# Altium footprint library Capacitor_THT.PcbLib: 378 footprints (part 11 of 24)
Each footprint in its own frame and in the unit in brackets; x right, y up, seen from the top. Pads: shape width x height; smd on the part's side, far side on the other; paste and mask are expansions set on the pad; w line width, h text height; cw(c..) or ccw(c..) is an arc to the next point about the centre after c.
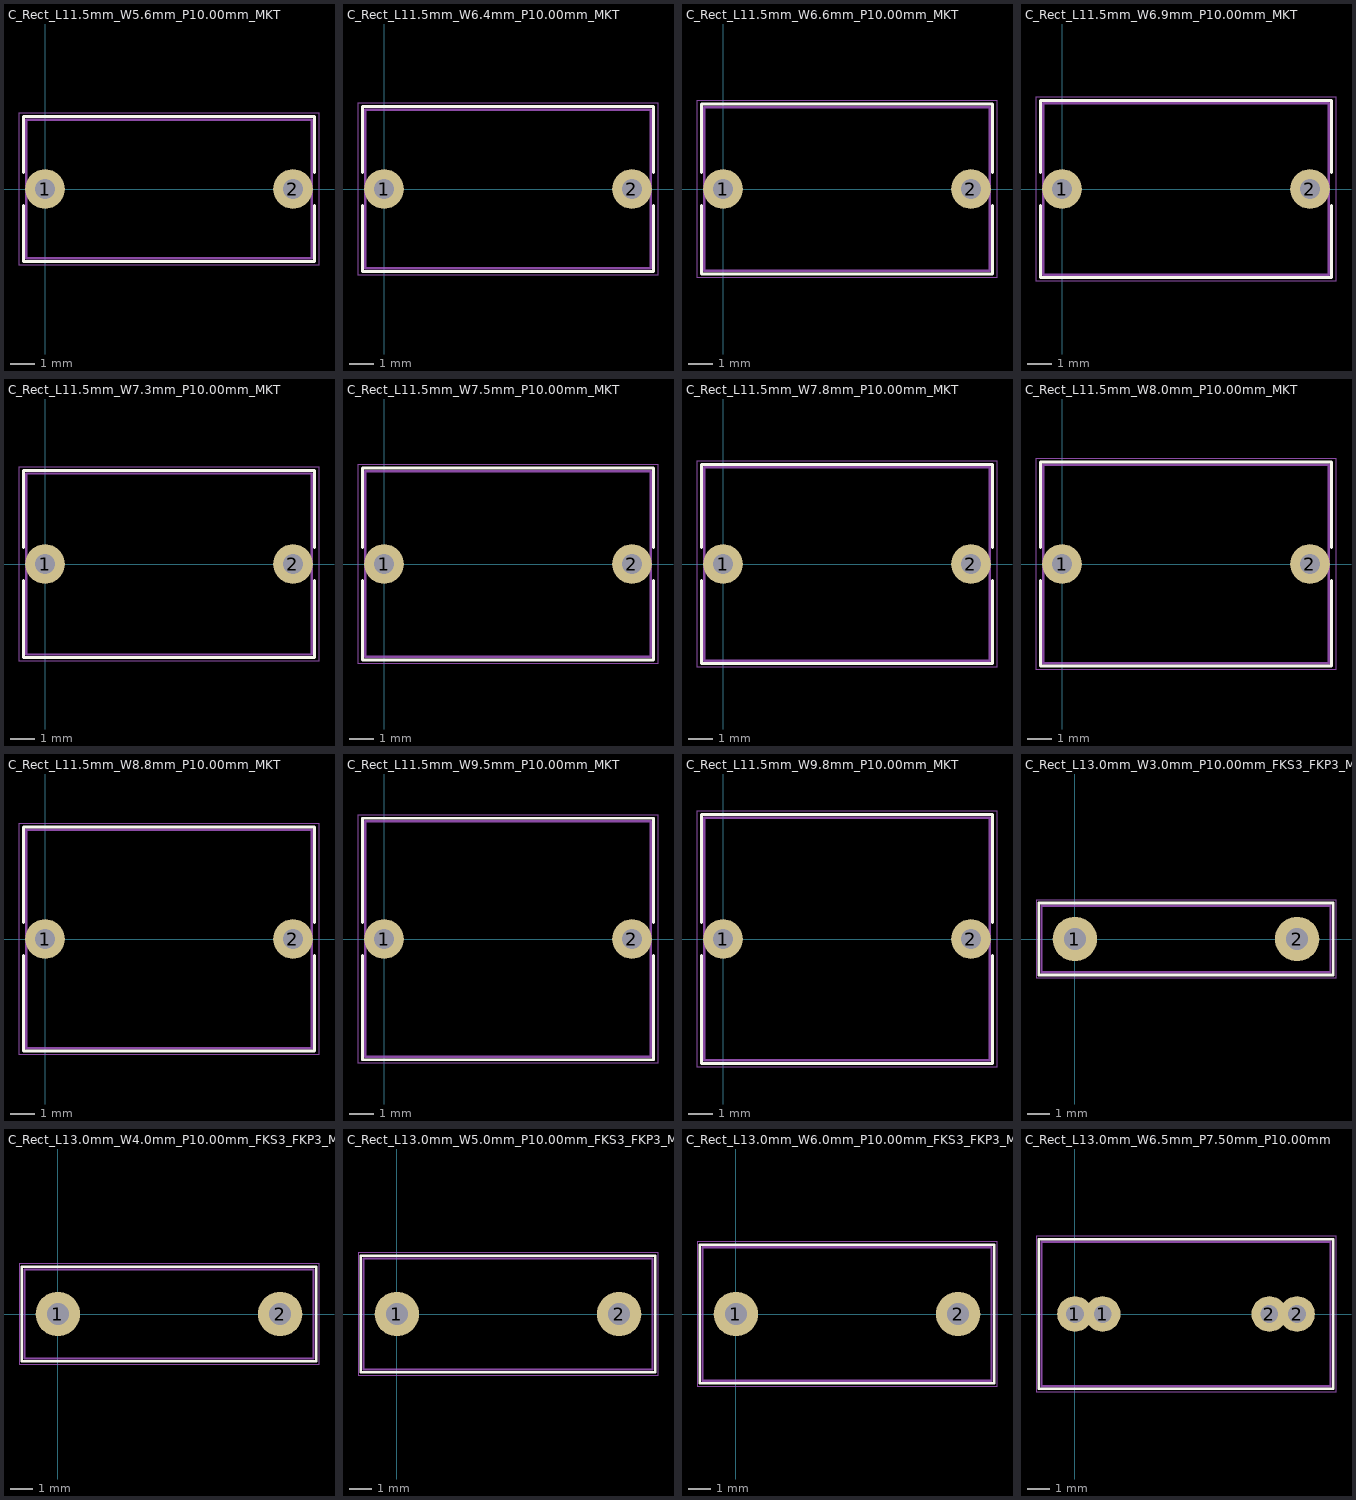
[diagram p10: the footprints below, top view; thin cyan lines are the x and y axes]

## C_Rect_L11.5mm_W5.6mm_P10.00mm_MKT [mm]
pads (2):
  round 1.6 hole 0.8: 1(0,0) 2(10,0)
F.SilkS:
  lines w0.12: -0.87,-0.665 -0.87,-2.92 10.87,-2.92 10.87,-0.665 ; -0.87,0.665 -0.87,2.92 10.87,2.92 10.87,0.665
F.CrtYd:
  lines w0.05: -1.05,-3.05 -1.05,3.05 11.05,3.05 11.05,-3.05 -1.05,-3.05
F.Fab:
  lines w0.1: -0.75,-2.8 10.75,-2.8 10.75,2.8 -0.75,2.8 -0.75,-2.8
  text "'.Designator'" at 0.953,-0.84 h1

## C_Rect_L11.5mm_W6.4mm_P10.00mm_MKT [mm]
pads (2):
  round 1.6 hole 0.8: 1(0,0) 2(10,0)
F.SilkS:
  lines w0.12: -0.87,-0.665 -0.87,-3.32 10.87,-3.32 10.87,-0.665 ; -0.87,0.665 -0.87,3.32 10.87,3.32 10.87,0.665
F.CrtYd:
  lines w0.05: -1.05,-3.45 11.05,-3.45 11.05,3.45 -1.05,3.45 -1.05,-3.45
F.Fab:
  lines w0.1: -0.75,-3.2 -0.75,3.2 10.75,3.2 10.75,-3.2 -0.75,-3.2
  text "'.Designator'" at 0.953,-0.84 h1

## C_Rect_L11.5mm_W6.6mm_P10.00mm_MKT [mm]
pads (2):
  round 1.6 hole 0.8: 1(0,0) 2(10,0)
F.SilkS:
  lines w0.12: -0.87,-0.665 -0.87,-3.42 10.87,-3.42 10.87,-0.665 ; -0.87,0.665 -0.87,3.42 10.87,3.42 10.87,0.665
F.CrtYd:
  lines w0.05: -1.05,-3.55 11.05,-3.55 11.05,3.55 -1.05,3.55 -1.05,-3.55
F.Fab:
  lines w0.1: -0.75,-3.3 10.75,-3.3 10.75,3.3 -0.75,3.3 -0.75,-3.3
  text "'.Designator'" at 0.953,-0.84 h1

## C_Rect_L11.5mm_W6.9mm_P10.00mm_MKT [mm]
pads (2):
  round 1.6 hole 0.8: 1(0,0) 2(10,0)
F.SilkS:
  lines w0.12: -0.87,-0.665 -0.87,-3.57 10.87,-3.57 10.87,-0.665 ; -0.87,0.665 -0.87,3.57 10.87,3.57 10.87,0.665
F.CrtYd:
  lines w0.05: -1.05,-3.7 -1.05,3.7 11.05,3.7 11.05,-3.7 -1.05,-3.7
F.Fab:
  lines w0.1: -0.75,-3.45 10.75,-3.45 10.75,3.45 -0.75,3.45 -0.75,-3.45
  text "'.Designator'" at 0.953,-0.84 h1

## C_Rect_L11.5mm_W7.3mm_P10.00mm_MKT [mm]
pads (2):
  round 1.6 hole 0.8: 1(0,0) 2(10,0)
F.SilkS:
  lines w0.12: -0.87,-0.665 -0.87,-3.77 10.87,-3.77 10.87,-0.665 ; -0.87,0.665 -0.87,3.77 10.87,3.77 10.87,0.665
F.CrtYd:
  lines w0.05: -1.05,-3.9 -1.05,3.9 11.05,3.9 11.05,-3.9 -1.05,-3.9
F.Fab:
  lines w0.1: -0.75,-3.65 -0.75,3.65 10.75,3.65 10.75,-3.65 -0.75,-3.65
  text "'.Designator'" at 0.953,-0.84 h1

## C_Rect_L11.5mm_W7.5mm_P10.00mm_MKT [mm]
pads (2):
  round 1.6 hole 0.8: 1(0,0) 2(10,0)
F.SilkS:
  lines w0.12: -0.87,-0.665 -0.87,-3.87 10.87,-3.87 10.87,-0.665 ; -0.87,0.665 -0.87,3.87 10.87,3.87 10.87,0.665
F.CrtYd:
  lines w0.05: -1.05,-4 11.05,-4 11.05,4 -1.05,4 -1.05,-4
F.Fab:
  lines w0.1: -0.75,-3.75 10.75,-3.75 10.75,3.75 -0.75,3.75 -0.75,-3.75
  text "'.Designator'" at 0.953,-0.84 h1

## C_Rect_L11.5mm_W7.8mm_P10.00mm_MKT [mm]
pads (2):
  round 1.6 hole 0.8: 1(0,0) 2(10,0)
F.SilkS:
  lines w0.12: -0.87,-0.665 -0.87,-4.02 10.87,-4.02 10.87,-0.665 ; -0.87,0.665 -0.87,4.02 10.87,4.02 10.87,0.665
F.CrtYd:
  lines w0.05: -1.05,-4.15 11.05,-4.15 11.05,4.15 -1.05,4.15 -1.05,-4.15
F.Fab:
  lines w0.1: -0.75,-3.9 10.75,-3.9 10.75,3.9 -0.75,3.9 -0.75,-3.9
  text "'.Designator'" at 0.953,-0.84 h1

## C_Rect_L11.5mm_W8.0mm_P10.00mm_MKT [mm]
pads (2):
  round 1.6 hole 0.8: 1(0,0) 2(10,0)
F.SilkS:
  lines w0.12: -0.87,-0.665 -0.87,-4.12 10.87,-4.12 10.87,-0.665 ; -0.87,0.665 -0.87,4.12 10.87,4.12 10.87,0.665
F.CrtYd:
  lines w0.05: -1.05,-4.25 11.05,-4.25 11.05,4.25 -1.05,4.25 -1.05,-4.25
F.Fab:
  lines w0.1: -0.75,-4 10.75,-4 10.75,4 -0.75,4 -0.75,-4
  text "'.Designator'" at 0.953,-0.84 h1

## C_Rect_L11.5mm_W8.8mm_P10.00mm_MKT [mm]
pads (2):
  round 1.6 hole 0.8: 1(0,0) 2(10,0)
F.SilkS:
  lines w0.12: -0.87,-0.665 -0.87,-4.52 10.87,-4.52 10.87,-0.665 ; -0.87,0.665 -0.87,4.52 10.87,4.52 10.87,0.665
F.CrtYd:
  lines w0.05: -1.05,-4.65 -1.05,4.65 11.05,4.65 11.05,-4.65 -1.05,-4.65
F.Fab:
  lines w0.1: -0.75,-4.4 10.75,-4.4 10.75,4.4 -0.75,4.4 -0.75,-4.4
  text "'.Designator'" at 0.953,-0.84 h1

## C_Rect_L11.5mm_W9.5mm_P10.00mm_MKT [mm]
pads (2):
  round 1.6 hole 0.8: 1(0,0) 2(10,0)
F.SilkS:
  lines w0.12: -0.87,-0.665 -0.87,-4.87 10.87,-4.87 10.87,-0.665 ; -0.87,0.665 -0.87,4.87 10.87,4.87 10.87,0.665
F.CrtYd:
  lines w0.05: -1.05,-5 -1.05,5 11.05,5 11.05,-5 -1.05,-5
F.Fab:
  lines w0.1: -0.75,-4.75 -0.75,4.75 10.75,4.75 10.75,-4.75 -0.75,-4.75
  text "'.Designator'" at 0.953,-0.84 h1

## C_Rect_L11.5mm_W9.8mm_P10.00mm_MKT [mm]
pads (2):
  round 1.6 hole 0.8: 1(0,0) 2(10,0)
F.SilkS:
  lines w0.12: -0.87,-0.665 -0.87,-5.02 10.87,-5.02 10.87,-0.665 ; -0.87,0.665 -0.87,5.02 10.87,5.02 10.87,0.665
F.CrtYd:
  lines w0.05: -1.05,-5.15 11.05,-5.15 11.05,5.15 -1.05,5.15 -1.05,-5.15
F.Fab:
  lines w0.1: -0.75,-4.9 10.75,-4.9 10.75,4.9 -0.75,4.9 -0.75,-4.9
  text "'.Designator'" at 0.953,-0.84 h1

## C_Rect_L13.0mm_W3.0mm_P10.00mm_FKS3_FKP3_MKS4 [mm]
pads (2):
  round 2 hole 1: 1(0,0) 2(10,0)
F.SilkS:
  lines w0.12: -1.62,-1.62 11.62,-1.62 11.62,1.62 -1.62,1.62 -1.62,-1.62
F.CrtYd:
  lines w0.05: -1.75,-1.75 -1.75,1.75 11.75,1.75 11.75,-1.75 -1.75,-1.75
F.Fab:
  lines w0.1: -1.5,-1.5 -1.5,1.5 11.5,1.5 11.5,-1.5 -1.5,-1.5
  text "'.Designator'" at 0.953,-0.84 h1

## C_Rect_L13.0mm_W4.0mm_P10.00mm_FKS3_FKP3_MKS4 [mm]
pads (2):
  round 2 hole 1: 1(0,0) 2(10,0)
F.SilkS:
  lines w0.12: -1.62,-2.12 11.62,-2.12 11.62,2.12 -1.62,2.12 -1.62,-2.12
F.CrtYd:
  lines w0.05: -1.75,-2.25 -1.75,2.25 11.75,2.25 11.75,-2.25 -1.75,-2.25
F.Fab:
  lines w0.1: -1.5,-2 -1.5,2 11.5,2 11.5,-2 -1.5,-2
  text "'.Designator'" at 0.953,-0.84 h1

## C_Rect_L13.0mm_W5.0mm_P10.00mm_FKS3_FKP3_MKS4 [mm]
pads (2):
  round 2 hole 1: 1(0,0) 2(10,0)
F.SilkS:
  lines w0.12: -1.62,-2.62 -1.62,2.62 11.62,2.62 11.62,-2.62 -1.62,-2.62
F.CrtYd:
  lines w0.05: -1.75,-2.75 11.75,-2.75 11.75,2.75 -1.75,2.75 -1.75,-2.75
F.Fab:
  lines w0.1: -1.5,-2.5 11.5,-2.5 11.5,2.5 -1.5,2.5 -1.5,-2.5
  text "'.Designator'" at 0.953,-0.84 h1

## C_Rect_L13.0mm_W6.0mm_P10.00mm_FKS3_FKP3_MKS4 [mm]
pads (2):
  round 2 hole 1: 1(0,0) 2(10,0)
F.SilkS:
  lines w0.12: -1.62,-3.12 11.62,-3.12 11.62,3.12 -1.62,3.12 -1.62,-3.12
F.CrtYd:
  lines w0.05: -1.75,-3.25 -1.75,3.25 11.75,3.25 11.75,-3.25 -1.75,-3.25
F.Fab:
  lines w0.1: -1.5,-3 11.5,-3 11.5,3 -1.5,3 -1.5,-3
  text "'.Designator'" at 0.953,-0.84 h1

## C_Rect_L13.0mm_W6.5mm_P7.50mm_P10.00mm [mm]
pads (4):
  round 1.6 hole 0.8: 1(0,0) 1(1.25,0) 2(8.75,0) 2(10,0)
F.SilkS:
  lines w0.12: -1.62,-3.37 -1.62,3.37 11.62,3.37 11.62,-3.37 -1.62,-3.37
F.CrtYd:
  lines w0.05: -1.75,-3.5 11.75,-3.5 11.75,3.5 -1.75,3.5 -1.75,-3.5
F.Fab:
  lines w0.1: -1.5,-3.25 11.5,-3.25 11.5,3.25 -1.5,3.25 -1.5,-3.25
  text "'.Designator'" at -0.297,-0.84 h1